# Altium schematic symbol library Omron-XG4A-031-conn-plug-10pos-100mil.SchLib: 1 symbol
Pins are listed as number, name and electrical type; pins without a type are passive.

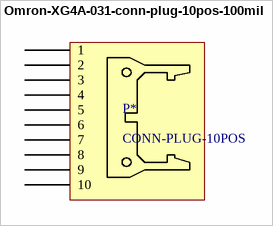
[diagram p0: symbol Omron-XG4A-031-conn-plug-10pos-100mil]

## Omron-XG4A-031-conn-plug-10pos-100mil
designator P*, comment CONN-PLUG-10POS
10 Positions Header, Shrouded Connector 0.100" Digikey#OR880-ND
pins: 1, 2, 3, 4, 5, 6, 7, 8, 9, 10